# Altium footprint library DIODE.PCBLIB: 42 footprints (part 2 of 3)
Each footprint in its own frame and in the unit in brackets; x right, y up, seen from the top. Pads: shape width x height; smd on the part's side, far side on the other; paste and mask are expansions set on the pad; w line width, h text height; cw(c..) or ccw(c..) is an arc to the next point about the centre after c.
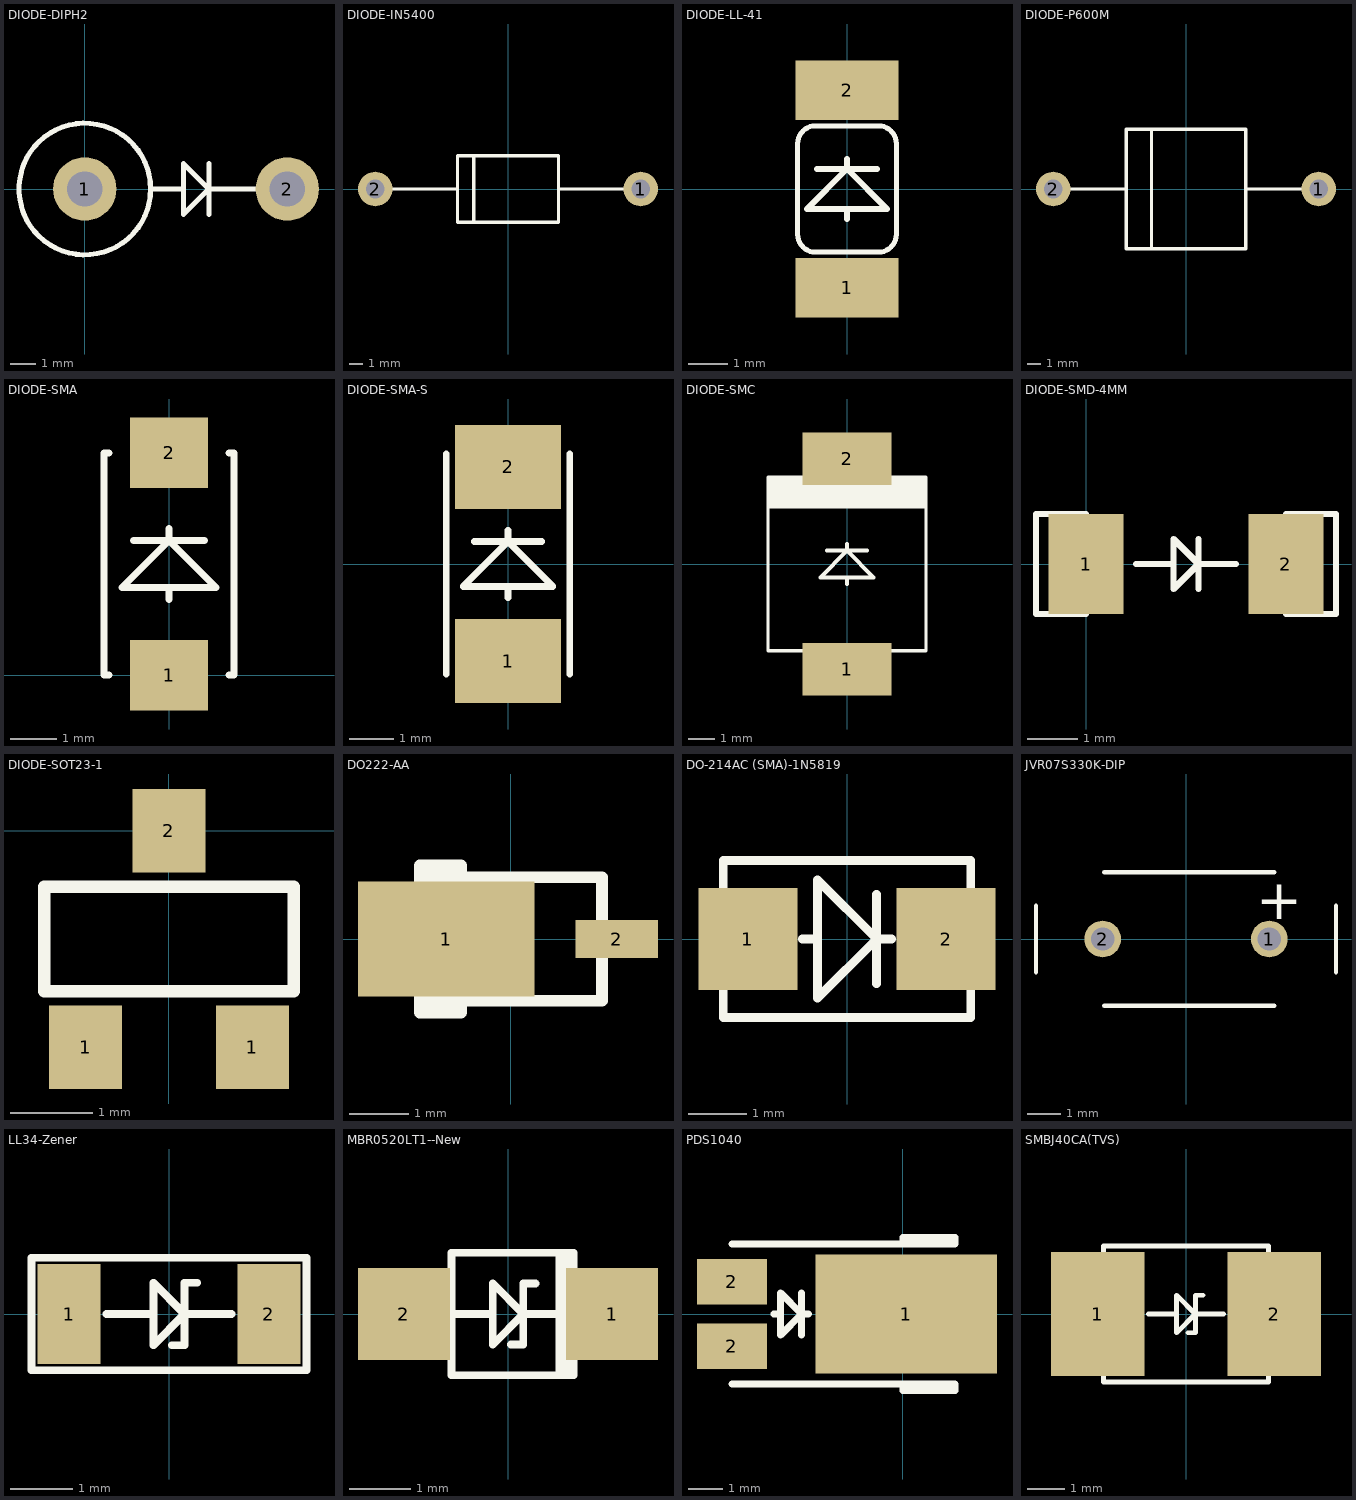
[diagram p1: the footprints below, top view; thin cyan lines are the x and y axes]

## DIODE-DIPH2 [mm]
pads (2):
  round 2.5 hole 1.4: 1(0,0) 2(8,0)
TopOverlay:
  circle w0.2: c0,0 r2.6
  lines w0.2: 2.6,0 3.9,0 ; 4.9,-1 4.9,1 ; 8,0 4.9,0 ; 3.9,-1 4.9,0 ; 3.9,-1 3.9,-1 ; 3.9,-1 3.9,1 4.9,0 ; 4.9,0 4.9,0

## DIODE-IN5400 [mm]
pads (2):
  round 2.6 hole 1.4: 1(10,0) 2(-10,0)
TopOverlay:
  lines w0.254: -10,0 -3.8,0 ; -2.575,-2.475 -2.575,2.5 ; 3.8,0 10,0 ; -3.8,-2.5 -3.8,2.5 3.8,2.5 3.8,-2.5 -3.8,-2.5

## DIODE-LL-41 [mm]
pads (2):
  rect 2.6x1.5 smd: 1(0,-2.5) 2(0,2.5)
TopOverlay:
  lines w0.127: -1.25,-1.15 ccw(c-0.8,-1.15) -0.8,-1.6 0.8,-1.6 ccw(c0.8,-1.15) 1.25,-1.15 1.25,1.15 ccw(c0.8,1.15) 0.8,1.6 -0.8,1.6 ccw(c-0.8,1.15) -1.25,1.15 -1.25,-1.15
  lines w0.152: -0.762,0.508 0.762,0.508 ; 0,-0.762 0,-0.508 ; 0,0.762 0,0.508 ; 0,0.508 -1.016,-0.508 1.016,-0.508 0,0.508

## DIODE-P600M [mm]
pads (2):
  round 2.6 hole 1.4: 1(10,0) 2(-10,0)
TopOverlay:
  lines w0.254: -10,0 -4.5,0 ; -2.6,-4.5 -2.6,4.5 ; 4.5,0 10,0 ; -4.5,-4.5 -4.5,4.5 4.5,4.5 4.5,-4.5 -4.5,-4.5

## DIODE-SMA [mm]
pads (2):
  rect 1.68x1.52 smd: 1(0,0) 2(0,4.8)
TopOverlay:
  lines w0.152: -1.3,0 -1.4,0 -1.4,4.8 -1.3,4.8 ; -0.762,2.908 0.762,2.908 ; 0,1.638 0,1.892 ; 0,3.162 0,2.908 ; 1.3,0 1.4,0 1.4,4.8 1.3,4.8 ; 0,2.908 -1.016,1.892 1.016,1.892 0,2.908

## DIODE-SMA-S [mm]
pads (2):
  rect 2.4x1.9 smd: 1(0,-2.2) 2(0,2.2)
TopOverlay:
  lines w0.152: -1.4,-2.5 -1.4,2.5 ; -0.762,0.508 0.762,0.508 ; 0,-0.762 0,-0.508 ; 0,0.762 0,0.508 ; 1.4,-2.5 1.4,2.5 ; 0,0.508 -1.016,-0.508 1.016,-0.508 0,0.508

## DIODE-SMC [mm]
pads (2):
  rect 3.4x2 smd: 1(0,-4) 2(0,4)
TopOverlay:
  rectangle: -3,2.1 3,3.3
  lines w0.127: -3,-3.3 -3,3.3 3,3.3 3,-3.3 -3,-3.3
  lines w0.152: -0.762,0.508 0.762,0.508 ; 0,-0.762 0,-0.508 ; 0,0.762 0,0.508 ; 0,0.508 -1.016,-0.508 1.016,-0.508 0,0.508

## DIODE-SMD-4MM [mm]
pads (2):
  rect 1.5x2 smd: 1(0,0) 2(4,0)
TopOverlay:
  lines w0.127: 0,-1 -1,-1 -1,1 0,1 ; 1,0 1.75,0 ; 2.25,-0.5 2.25,0.5 ; 3,0 2.25,0 ; 4,-1 5,-1 5,1 4,1 ; 2.25,0 1.75,0.5 1.75,-0.5 2.25,0

## DIODE-SOT23-1 [mil]
pads (3):
  rect 35x40 smd: 1(-40,-104) 1(40,-104) 2(0,0)
TopOverlay:
  lines w6: -60,-77 -60,-27 60,-27 60,-77 -60,-77

## DO222-AA [mm]
pads (2):
  rect 3x1.95 smd: 1(-1.1,0)
  rect 1.4x0.65 smd: 2(1.8,0)
TopOverlay:
  rectangle: -1.55,1.1 -0.85,1.25
  rectangle: -1.55,-1.25 -0.8,-1.05
  lines w0.2: -0.85,-1.1 -0.85,-1.25 -1.55,-1.25 -1.55,-1.05 ; -0.85,1.1 -0.85,1.25 -1.55,1.25 -1.55,1.05 ; -1.55,-1.05 1.55,-1.05 1.55,1.05 -1.55,1.05 ; -1.55,-1.05 -1.55,1.05

## DO-214AC (SMA)-1N5819 [mm] "DO-214AC (SMA)-1N5819"
pads (2):
  rect 1.7x1.75 smd: 1(-1.7,0) 2(1.7,0)
TopOverlay:
  lines w0.152: -0.762,0 -0.508,0 ; 0.508,-0.762 0.508,0.762 ; 0.762,0 0.508,0 ; 0.508,0 -0.508,1.016 -0.508,-1.016 0.508,0 ; -2.125,-1.35 -2.125,1.35 2.125,1.35 2.125,-1.35 -2.125,-1.35

## JVR07S330K-DIP [mm] "JVR07S330K-DIP"
pads (2):
  round 1.1 hole 0.7: 1(2.5,0) 2(-2.5,0)
TopOverlay:
  lines w0.127: -4.5,-1 -4.5,1 ; -2.45,-2 2.65,-2 ; -2.45,2 2.65,2 ; 4.5,-1 4.5,1
  text "+" at 2.1,0.6 h1.2

## LL34-Zener [mm] "LL34-Zener"
pads (2):
  rect 1x1.6 smd: 1(-1.6,0) 2(1.6,0)
TopOverlay:
  lines w0.127: -1,0 -0.25,0 ; 0.05,-0.5 0.25,-0.5 0.25,0.5 0.45,0.5 ; 1,0 0.25,0 ; 0.25,0 -0.25,-0.5 -0.25,0.5 0.25,0 ; -2.2,-0.9 -2.2,0.9 2.2,0.9 2.2,-0.9 -2.2,-0.9

## MBR0520LT1--New [mm] "MBR0520LT1--New"
pads (2):
  rect 1.5x1.5 smd: 1(1.7,0) 2(-1.7,0)
TopOverlay:
  rectangle: 0.775,-1 1.075,1
  lines w0.127: -0.875,0 -0.25,0 ; 0.05,-0.5 0.25,-0.5 0.25,0.5 0.45,0.5 ; 1,0 0.25,0 ; 0.25,0 -0.25,-0.5 -0.25,0.5 0.25,0 ; -0.925,-1 -0.925,1 1.075,1 1.075,-1 -0.925,-1

## PDS1040 [mm]
pads (3):
  rect 5.2x3.4 smd: 1(0.1,0)
  rect 2x1.3 smd: 2(-4.9,-0.92) 2(-4.9,0.92)
TopOverlay:
  lines w0.2: -4.9,-2 1.5,-2 1.5,-2.2 0,-2.2 0,-2 ; -4.9,2 1.5,2 1.5,2.2 0,2.2 0,2 ; -3.7,0 -3.5,0 ; -2.9,-0.6 -2.9,0.6 ; -2.7,0 -2.9,0 ; -2.9,0 -3.5,-0.6 -3.5,0.6 -2.9,0

## SMBJ40CA(TVS) [mm] "SMBJ40CA(TVS)"
pads (2):
  rect 2.5x3.3 smd: 1(-2.35,0) 2(2.35,0)
TopOverlay:
  lines w0.127: -1,0 -0.25,0 ; 0.05,-0.5 0.25,-0.5 0.25,0.5 0.45,0.5 ; 1,0 0.25,0 ; 0.25,0 -0.25,-0.5 -0.25,0.5 0.25,0 ; -2.2,-1.813 -2.2,1.813 2.2,1.813 2.2,-1.813 -2.2,-1.813